# Altium schematic symbol library CAP's.SchLib: 3 symbols
Pins are listed as number, name and electrical type; pins without a type are passive.

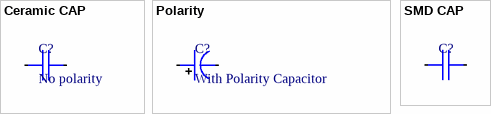
[diagram p0: symbols Ceramic CAP to SMD CAP]

## Ceramic CAP
designator C?, comment No polarity
footprint DIP_Ceramic CAP / 100nf
footprint DIP_PLY_100nf400V
footprint DIP_330nF/400V
footprint DIP_100Nf100V
footprint DIP_6.8nF1200V
footprint DIP_47nF100V
footprint MKTCAP
pins: 1, 2

## Polarity
designator C?, comment With Polarity Capacitor
footprint DIP_4.7uF400V
footprint DIP_22uF 400V
footprint DIP_47uF 400v
footprint DIP_100uf25v
footprint DIP_470u35v
footprint DIP_47uF16V
footprint DIP_1000uF35v - duplicate
footprint DIP_33uf35v
footprint DIP_10uF50V
footprint SMD_6.3*5.4
footprint Core F (8X10.5)
footprint core B (4X5.4)
footprint Core C (6.3X5.4)
footprint Core D (6.3X5.4)
footprint Core D8 (6.3X7.7)
footprint Core F (8X10.5)
footprint 40MM H cap
footprint PCBComponent_1
footprint PCBComponent_1 - duplicate
pins: +, -

## SMD CAP
designator C?  (value not drawn)
footprint SMD_0201 (0201/0603)
footprint SMD_0402 (0402/1005)
footprint SMD_0603 (0603/1608)
footprint SMD_0805
footprint SMD_1206
footprint SMD_1812 (1812/3246)
footprint SMD_2010 (2010/5025)
footprint SMD_2512 (2512/6332)
footprint SMD_1206&0805
pins: 1, 2